# EAGLE library part 79107-38 (library untitled)
RECEPTACAL
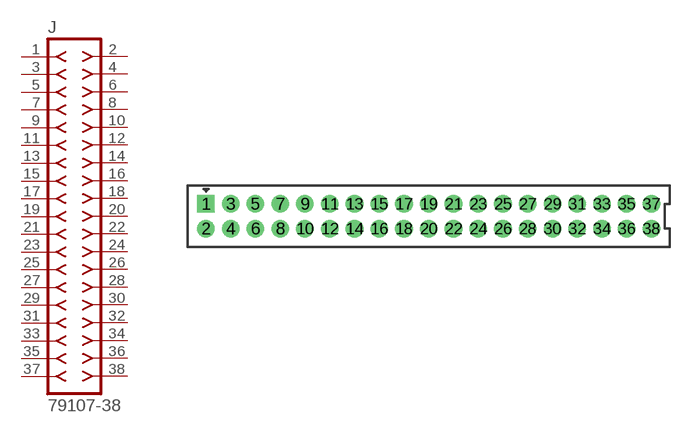
[diagram p153: symbol with the pads of 79107-38; footprint 79107-38]

Designator prefix J

## 79107-38  [79107-38]
1  1  pas
2  2  pas
3  3  pas
4  4  pas
5  5  pas
6  6  pas
7  7  pas
8  8  pas
9  9  pas
10  10  pas
11  11  pas
12  12  pas
13  13  pas
14  14  pas
15  15  pas
16  16  pas
17  17  pas
18  18  pas
19  19  pas
20  20  pas
21  21  pas
22  22  pas
23  23  pas
24  24  pas
25  25  pas
26  26  pas
27  27  pas
28  28  pas
29  29  pas
30  30  pas
31  31  pas
32  32  pas
33  33  pas
34  34  pas
35  35  pas
36  36  pas
37  37  pas
38  38  pas

## Footprint 79107-38 (pad centres in mm)
RECEPTACAL Dual Row, Vertical, Through-Hole
drill 0.914 square: 1 -18,1
drill 0.914 round: 2 -18,-1; 3 -16,1; 4 -16,-1; 5 -14,1; 6 -14,-1; 7 -12,1; 8 -12,-1; 9 -10,1; 10 -10,-1; 11 -8,1; 12 -8,-1; 13 -6,1; 14 -6,-1; 15 -4,1; 16 -4,-1; 17 -2,1; 18 -2,-1; 19 0,1; 20 0,-1; 21 2,1; 22 2,-1; 23 4,1; 24 4,-1; 25 6,1; 26 6,-1; 27 8,1; 28 8,-1; 29 10,1; 30 10,-1; 31 12,1; 32 12,-1; 33 14,1; 34 14,-1; 35 16,1; 36 16,-1; 37 18,1; 38 18,-1